# Altium schematic symbol library Микросхемы_Питания.SchLib: 10 symbols
Pins are listed as number, name and electrical type; pins without a type are passive.

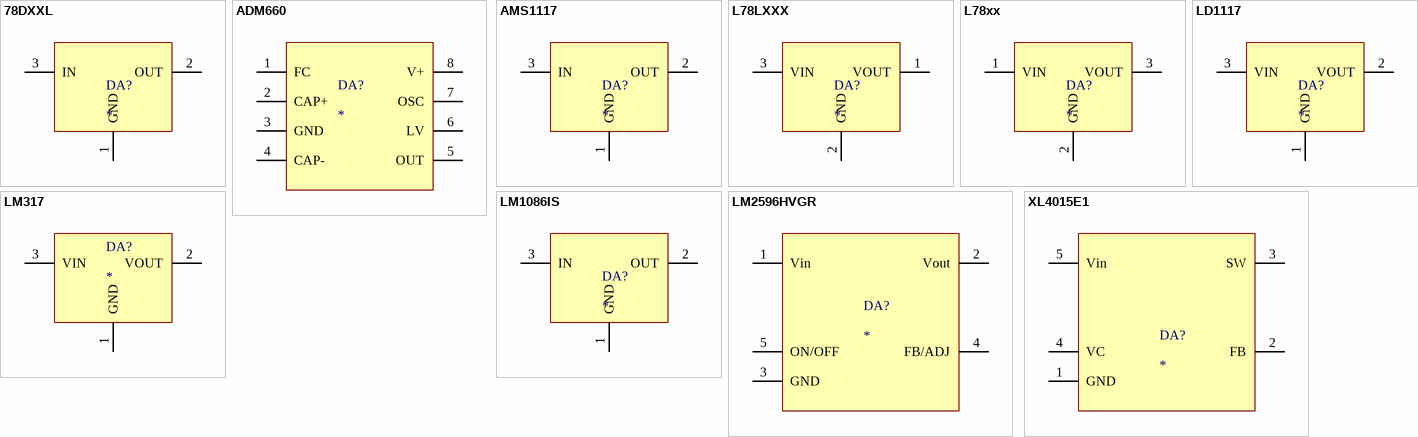
[diagram p0: symbols 78DXXL to XL4015E1]

## 78DXXL
designator DA?
footprint DPAK-3Pin (D2-PAK, 4-Pads, Body 7,93x8,70mm (max), IPC Medium Density)
pins: 1 GND, 2 OUT, 3 IN

## ADM660
designator DA?
footprint SOIC8
pins: 1 FC, 2 CAP+, 3 GND, 4 CAP-, 5 OUT, 6 LV, 7 OSC, 8 V+

## AMS1117
designator DA?
footprint SOT223 (SOT223, 4-Leads, Body 6,50x7,00mm (avg), Pitch 2,30mm, IPC Medium Density)
pins: 1 GND, 2 OUT, 3 IN

## L78LXXX
designator DA?
footprint SOT89 (SOT89, 3-Leads, Body 4,50x2,45mm, Pitch 1,50mm, Lead Span 4,1mm, IPC Medium Density)
pins: 1 VOUT, 2 GND, 3 VIN

## L78xx
designator DA?
footprint TO-220
footprint TO-220 Корпус на плате V2
pins: 1 VIN, 2 GND, 3 VOUT

## LD1117
designator DA?
footprint DPAK-3Pin (D2-PAK, 4-Pads, Body 7,93x8,70mm (max), IPC Medium Density)
footprint TO-220
footprint TO-220_Корпус_на_плате (Корпус ледит на плате радиатором сверху)
footprint SOT223 (SOT223, 4-Leads, Body 6,50x7,00mm (avg), Pitch 2,30mm, IPC Medium Density)
footprint TO-220 Корпус на плате V2
pins: 1 GND, 2 VOUT, 3 VIN

## LM317
designator DA?
footprint TO-220
footprint TO-220_Корпус_на_плате (Корпус ледит на плате радиатором сверху)
footprint TO-220 Корпус на плате V2
pins: 1 GND, 2 VOUT, 3 VIN

## LM1086IS
designator DA?
footprint DPAK-3Pin (D2-PAK, 4-Pads, Body 7,93x8,70mm (max), IPC Medium Density)
pins: 1 GND, 2 OUT, 3 IN

## LM2596HVGR
designator DA?
footprint TO-263-5i
pins: 1 Vin, 2 Vout, 3 GND, 4 FB/ADJ, 5 ON/OFF

## XL4015E1
designator DA?
footprint TO-263-5i
pins: 1 GND, 2 FB, 3 SW, 4 VC, 5 Vin